# Altium footprint library SSOP-44K.PcbLib: 1 footprints
Each footprint in its own frame and in the unit in brackets; x right, y up, seen from the top. Pads: shape width x height; smd on the part's side, far side on the other; paste and mask are expansions set on the pad; w line width, h text height; cw(c..) or ccw(c..) is an arc to the next point about the centre after c.
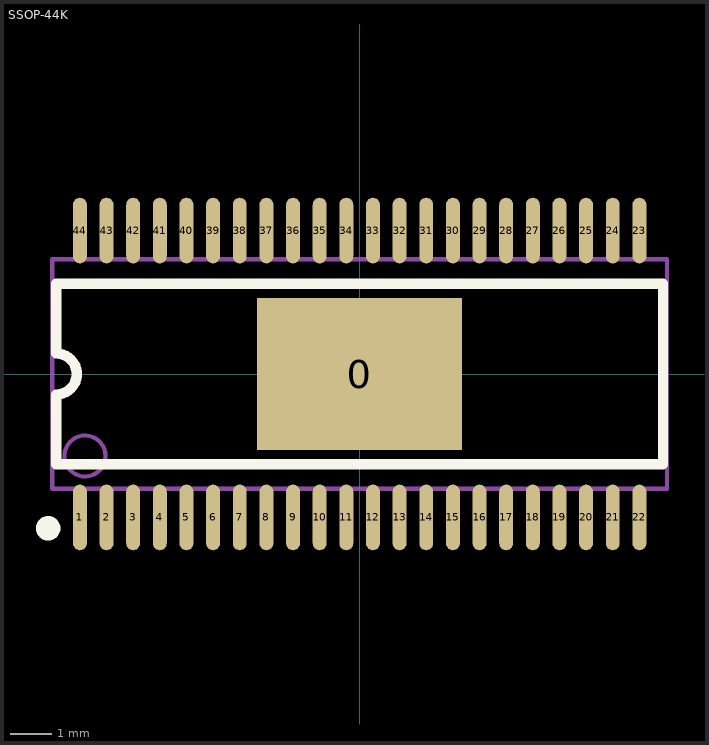
[diagram p0: the footprint, top view; thin cyan lines are the x and y axes]

## SSOP-44K [mm]
pads (45):
  rect 5x3.7 smd: 0(0,0)
  oval 0.34x1.6 smd: 1(-6.825,-3.5) 2(-6.175,-3.5) 3(-5.525,-3.5) 4(-4.875,-3.5) 5(-4.225,-3.5) 6(-3.575,-3.5) 7(-2.925,-3.5) 8(-2.275,-3.5) 9(-1.625,-3.5) 10(-0.975,-3.5) 11(-0.325,-3.5) 12(0.325,-3.5) 13(0.975,-3.5) 14(1.625,-3.5) 15(2.275,-3.5) 16(2.925,-3.5) 17(3.575,-3.5) 18(4.225,-3.5) 19(4.875,-3.5) 20(5.525,-3.5) 21(6.175,-3.5) 22(6.825,-3.5) 23(6.825,3.5) 24(6.175,3.5) 25(5.525,3.5) 26(4.875,3.5) 27(4.225,3.5) 28(3.575,3.5) 29(2.925,3.5) 30(2.275,3.5) 31(1.625,3.5) 32(0.975,3.5) 33(0.325,3.5) 34(-0.325,3.5) 35(-0.975,3.5) 36(-1.625,3.5) 37(-2.275,3.5) 38(-2.925,3.5) 39(-3.575,3.5) 40(-4.225,3.5) 41(-4.875,3.5) 42(-5.525,3.5) 43(-6.175,3.5) 44(-6.825,3.5)
Top Overlay:
  circle w0.3: c-7.597,-3.765 r0.15
  lines w0.254: -7.4,-2.2 7.4,-2.2 7.4,2.2 -7.4,2.2 -7.4,0.5 cw(c-7.4,0) -7.4,-0.5 -7.4,-2.2
Mechanical 13:
  circle w0.1: c-6.7,-2 r0.5
  lines w0.1: -7.5,-2.8 7.5,-2.8 7.5,2.8 -7.5,2.8 -7.5,-2.8